# Altium integrated library ZJY130-IPS.IntLib: 1 symbol
Pins are listed as number, name and electrical type; pins without a type are passive.

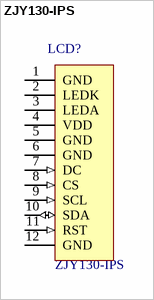
[diagram p0: symbol ZJY130-IPS]

## ZJY130-IPS
designator LCD?, comment Model: ZJY130-IPS  (hidden comment: ZJY130-IPS ST7789 based lcd display)
Manufacturer: *; HelpURL: https://drive.google.com/file/d/10OsF2HCZRQybMIsUPRKqx6Sjy8L6cxdj/view; Package: *
footprint ZJY130-IPS
pins: 1 GND (power), 2 LEDK (power), 3 LEDA (power), 4 VDD (power), 5 GND (power), 6 GND (power), 7 DC (in), 8 CS (in), 9 SCL (in), 10 SDA (io), 11 RST (in), 12 GND (power)